# Altium footprint library box.PcbLib: 1 footprints
Each footprint in its own frame and in the unit in brackets; x right, y up, seen from the top. Pads: shape width x height; smd on the part's side, far side on the other; paste and mask are expansions set on the pad; w line width, h text height; cw(c..) or ccw(c..) is an arc to the next point about the centre after c.
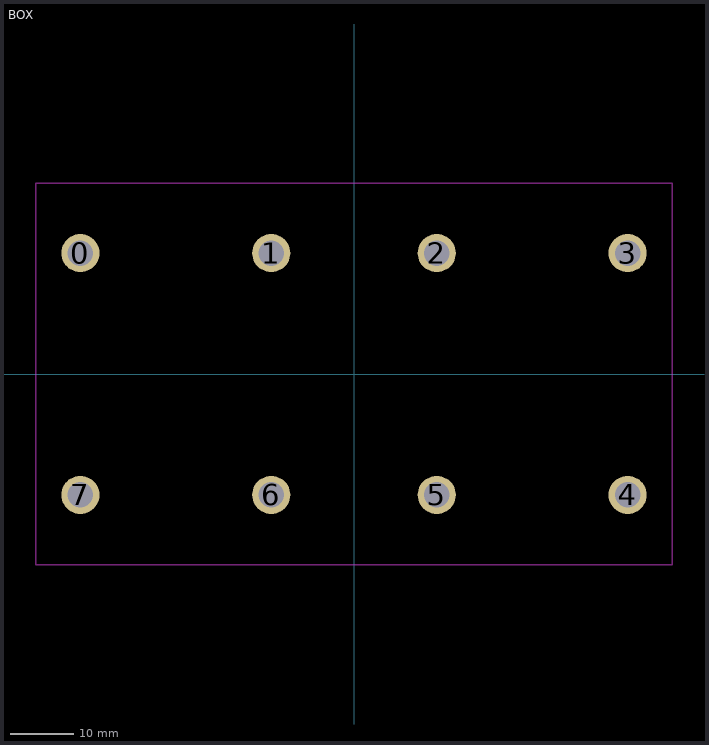
[diagram p0: the footprint, top view; thin cyan lines are the x and y axes]

## BOX [mm]
pads (8):
  round 6 hole 4: 0(-43,19) 1(-13,19) 2(13,19) 3(43,19) 4(43,-19) 5(13,-19) 6(-13,-19) 7(-43,-19)
Keep-Out Layer:
  lines w0.254: -50,-30 -50,30 50,30 50,-30 -50,-30
3D body "box 3d.STEP": height 7.4, standoff -34.3, extent -55.6,-35.65 55.6,35.65